# Altium footprint library INDCPR5-8x10.PcbLib: 1 footprints
Each footprint in its own frame and in the unit in brackets; x right, y up, seen from the top. Pads: shape width x height; smd on the part's side, far side on the other; paste and mask are expansions set on the pad; w line width, h text height; cw(c..) or ccw(c..) is an arc to the next point about the centre after c.
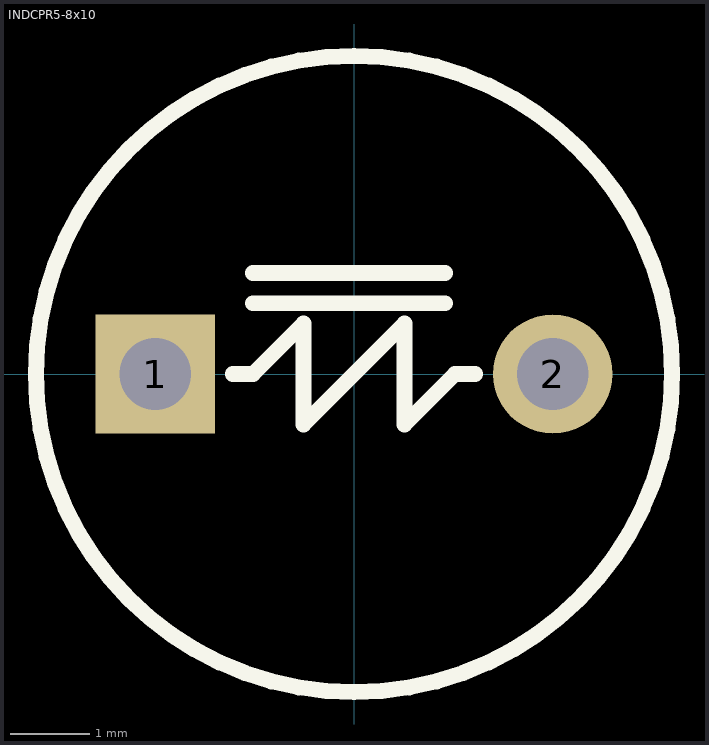
[diagram p0: the footprint, top view; thin cyan lines are the x and y axes]

## INDCPR5-8x10 [mm] "Inductor, Electrolytic, Radial; Body 8 x 10 mm (Dia.xH typ); Pin Spacing 5 mm (typ)"
height 10
pads (2):
  rect 1.5x1.5 hole 0.9: 1(-2.5,0)
  round 1.5 hole 0.9: 2(2.5,0)
Top Overlay:
  circle w0.2: c0,0 r4
  lines w0.2: -1.524,0 -1.27,0 -0.635,0.635 -0.635,-0.635 0.635,0.635 0.635,-0.635 1.27,0 1.524,0 ; -1.27,0.889 1.143,0.889 ; -1.27,1.27 1.143,1.27
3D body: height 8.5, standoff 1.5, extent -3.486,-3.43 3.486,3.556
3D body: height 10, standoff 8.5, extent -3.937,-3.937 4.031,4.047
3D body: height 1.5, standoff 0, extent -3.937,-3.937 4.031,4.047